# EAGLE library part 750811116 (library Wurth Electronics Midcom Inc V1-0)
Package Style: Speedy EE16/8/5 12.75W SMD Mounting: SMD Pins: 12 pins Bobbin: 070-5642 Windings Primary: 120 - 375V, 80 - 200kHz Aux: Secondary: 5.0V, 2.55A Best pinouts for production vary per application. Please contact Wurth Electronics Midcom, Inc. for assistance with your custom design. Datasheet: 750811116 <http://www.we-online.com/web/en/index.php/show/media/passive_components_-_custom_magnetics/pdf_doc_files/spec_sheets/7508/750811116.pdf> Website: Wurth Electronics Midcom <http://www.we-online.com/midcom> Contact us Wurth Electronics Midcom, Inc. 121 Airport Dr. Watertown, SD 57201 Phone: (605) 886-4385 Fax: (605) 886-4486 E-Mail: midcom@we-online.com
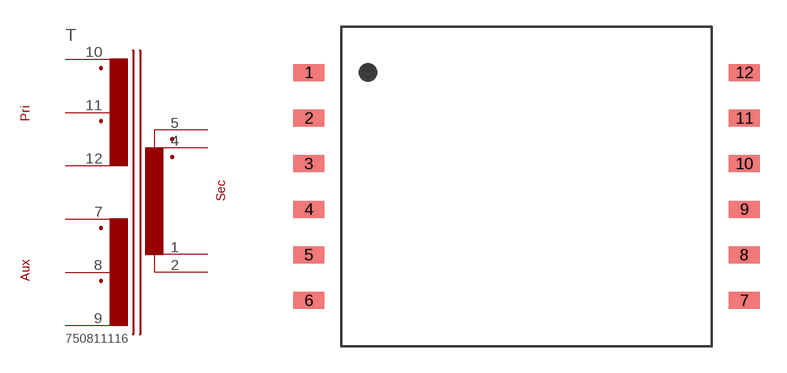
[diagram p77: symbol with the pads of 00SPEEDY_EE16/8/5_SMD_12PIN; footprint 00SPEEDY_EE16/8/5_SMD_12PIN]

Designator prefix T

## 750811116  [00SPEEDY_EE16/8/5_SMD_12PIN]
1  12  pas
2  10  pas
4  11  pas
5  9  pas
7  4  pas
8  5  pas
9  6  pas
10  1  pas
11  2  pas
12  3  pas

## Footprint 00SPEEDY_EE16/8/5_SMD_12PIN (pad centres in mm)
Package Style: Speedy EE16/8/5 Mounting: SMD Pins: 12 pins Bobbin: 070-5642
smd 1.702 x 0.94: 1 -12.116,6.35; 2 -12.116,3.81; 3 -12.116,1.27; 4 -12.116,-1.27; 5 -12.116,-3.81; 6 -12.116,-6.35; 7 12.116,-6.35; 8 12.116,-3.81; 9 12.116,-1.27; 10 12.116,1.27; 11 12.116,3.81; 12 12.116,6.35